# Altium schematic symbol library 1.10 - PHY芯片.SchLib: 2 symbols
Pins are listed as number, name and electrical type; pins without a type are passive.

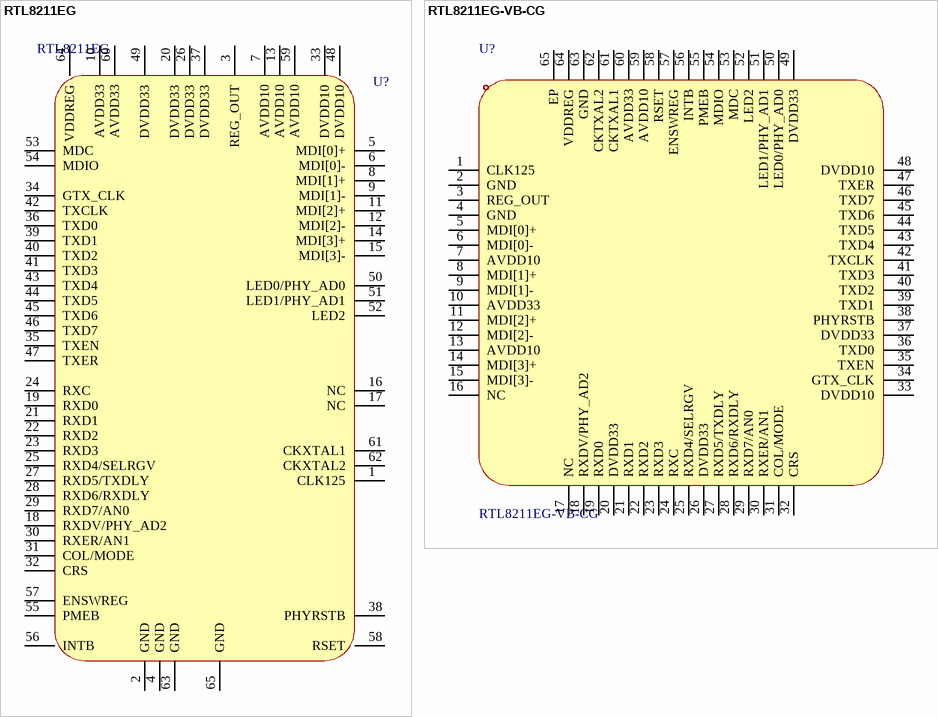
[diagram p0: symbols RTL8211EG to RTL8211EG-VB-CG]

## RTL8211EG
designator U?
Symbol: Interface_Ethernet_RTL8211EG-VB-CG; Add into BOM: yes; Origin Footprint: Package_DFN_QFN:QFN-64-1EP_9x9mm_P0.5mm_EP3.8x3.8mm; Device: Interface_Ethernet_RTL8211EG-VB-CG; User doc link: https://datasheet.lcsc.com/szlcsc/Realtek-Semicon-RTL8211EG-VB-CG_C69264.pdf; Convert to PCB: yes
footprint QFN64 9x9_L (64脚，长x宽x高：9x9x1mm，脚距：0.5mm)
footprint QFN64 9x9_M (64脚，长x宽x高：9x9x1mm，脚距：0.5mm 淘宝ID:黄晶宝石)
footprint QFN64 9x9_N (64脚，长x宽x高：9x9x1mm，脚距：0.5mm  淘宝ID:黄晶宝石)
pins: 1 CLK125, 2 GND, 3 REG_OUT, 4 GND, 5 MDI[0]+, 6 MDI[0]-, 7 AVDD10, 8 MDI[1]+, 9 MDI[1]-, 10 AVDD33, 11 MDI[2]+, 12 MDI[2]-, 13 AVDD10, 14 MDI[3]+, 15 MDI[3]-, 16 NC, 17 NC, 18 RXDV/PHY_AD2, 19 RXD0, 20 DVDD33, 21 RXD1, 22 RXD2, 23 RXD3, 24 RXC, 25 RXD4/SELRGV, 26 DVDD33, 27 RXD5/TXDLY, 28 RXD6/RXDLY, 29 RXD7/AN0, 30 RXER/AN1, 31 COL/MODE, 32 CRS, 33 DVDD10, 34 GTX_CLK, 35 TXEN, 36 TXD0, 37 DVDD33, 38 PHYRSTB, 39 TXD1, 40 TXD2, 41 TXD3, 42 TXCLK, 43 TXD4, 44 TXD5, 45 TXD6, 46 TXD7, 47 TXER, 48 DVDD10, 49 DVDD33, 50 LED0/PHY_AD0, 51 LED1/PHY_AD1, 52 LED2, 53 MDC, 54 MDIO, 55 PMEB, 56 INTB, 57 ENSWREG, 58 RSET, 59 AVDD10, 60 AVDD33, 61 CKXTAL1, 62 CKXTAL2, 63 GND, 64 VDDREG, 65 GND

## RTL8211EG-VB-CG
designator U?
Manufacturer: REALTEK(瑞昱); Add into BOM: yes; Application Function: PHY收发器; Number of Channels: 4; Interface: RGMII；GMII; Supply Voltage: 3.3V；1.8V；2.5V；1.5V; Symbol: RTL8211EG-VB-CG; Device: RTL8211EG-VB-CG; LCSC Part Name: 集成10/100/1000M以太网收发器; Supplier Part: C69264; Manufacturer Part: RTL8211EG-VB-CG; Supplier Footprint: QFN-64-EP(9x9); JLCPCB Part Class: 扩展库; Datasheet: https://atta.szlcsc.com/upload/public/pdf/source/20171225/C90735_15141884815701203317.pdf; Supplier: LCSC; Convert to PCB: yes
footprint QFN64 (9mm*9mm  封装库来自淘宝卖家 ID：黄晶宝石)
footprint QFN64 9x9_L (64脚，长x宽x高：9x9x1mm，脚距：0.5mm)
footprint QFN64 9x9_M (64脚，长x宽x高：9x9x1mm，脚距：0.5mm 淘宝ID:黄晶宝石)
footprint QFN64 9x9_N (64脚，长x宽x高：9x9x1mm，脚距：0.5mm  淘宝ID:黄晶宝石)
pins: 1 CLK125, 2 GND, 3 REG_OUT, 4 GND, 5 MDI[0]+, 6 MDI[0]-, 7 AVDD10, 8 MDI[1]+, 9 MDI[1]-, 10 AVDD33, 11 MDI[2]+, 12 MDI[2]-, 13 AVDD10, 14 MDI[3]+, 15 MDI[3]-, 16 NC, 17 NC, 18 RXDV/PHY_AD2, 19 RXD0, 20 DVDD33, 21 RXD1, 22 RXD2, 23 RXD3, 24 RXC, 25 RXD4/SELRGV, 26 DVDD33, 27 RXD5/TXDLY, 28 RXD6/RXDLY, 29 RXD7/AN0, 30 RXER/AN1, 31 COL/MODE, 32 CRS, 33 DVDD10, 34 GTX_CLK, 35 TXEN, 36 TXD0, 37 DVDD33, 38 PHYRSTB, 39 TXD1, 40 TXD2, 41 TXD3, 42 TXCLK, 43 TXD4, 44 TXD5, 45 TXD6, 46 TXD7, 47 TXER, 48 DVDD10, 49 DVDD33, 50 LED0/PHY_AD0, 51 LED1/PHY_AD1, 52 LED2, 53 MDC, 54 MDIO, 55 PMEB, 56 INTB, 57 ENSWREG, 58 RSET, 59 AVDD10, 60 AVDD33, 61 CKTXAL1, 62 CKTXAL2, 63 GND, 64 VDDREG, 65 EP